# EAGLE library part HOMYET-HEADPHONE-JACK (library m_connector)
HOMYET 3.5 mm audio jack, 6pin
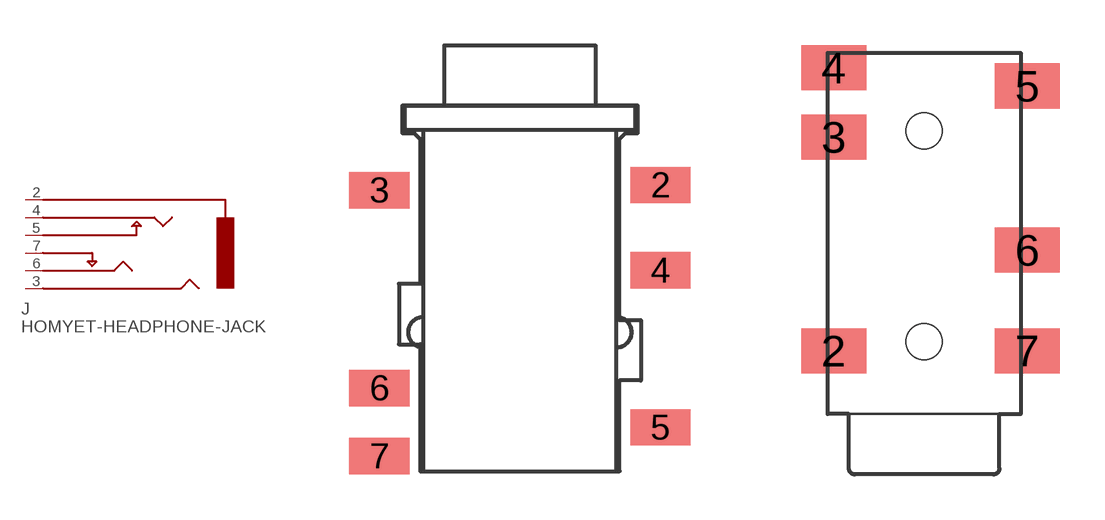
[diagram p19: symbol with the pads of HOMYET-HY-311CB; footprints HOMYET-HY-311CB, HOMYET-HY-311S]

Designator prefix J

## HOMYET-HEADPHONE-JACKMIDMOUNT  [HOMYET-HY-311CB]
2  SLEEVE
3  AUX
4  RING
5  RING_SW
6  TIP
7  TIP_SW

## HOMYET-HEADPHONE-JACKTOPMOUNT  [HOMYET-HY-311S]
2  AUX
3  TIP
4  TIP_SW
5  RING_SW
6  RING
7  SLEEVE

## Footprint HOMYET-HY-311CB (pad centres in mm)
smd 2 x 1.2: 2 4.65,-2.63; 3 -4.65,-2.8; 4 4.65,-5.45; 5 4.65,-10.65; 6 -4.65,-9.35; 7 -4.65,-11.6

## Footprint HOMYET-HY-311S (pad centres in mm)
smd 2.15 x 1.5: 2 -3,2.1; 3 -3,9.2; 4 -3,11.5; 5 3.42,10.9; 6 3.42,5.45; 7 3.42,2.1
hole 1.2 at 0,2.4
hole 1.2 at 0,9.4